# Altium integrated library MF-MSMF200-2.IntLib: 1 symbol
Pins are listed as number, name and electrical type; pins without a type are passive.

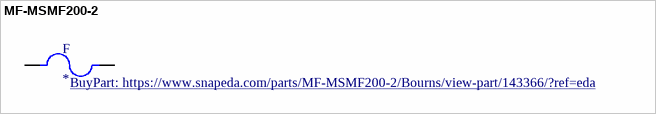
[diagram p0: symbol MF-MSMF200-2]

## MF-MSMF200-2
designator F
Polymeric PTC Resettable Fuse 8V 2A Ih Surface Mount 1812 (4532 Metric), Concave; MP: MF-MSMF200-2; MF: Bourns; SnapEDA_Link: https://www.snapeda.com/parts/MF-MSMF200-2/Bourns/view-part/143366/?ref=snap; DigiKey-Purchase-URL: https://snapeda.com/shop?store=DigiKey&id=143366; Arrow_Electronics-Purchase-URL: https://snapeda.com/shop?store=Arrow+Electronics&id=143366; Availability: Good; Package: 1812 Bourns; Mouser-Purchase-URL: https://snapeda.com/shop?store=Mouser&id=143366; Price: None; Value: *; BuyPart: https://www.snapeda.com/parts/MF-MSMF200-2/Bourns/view-part/143366/?ref=eda
footprint FUSER_MF-MSMF200-2
pins: 1, 2